# Altium footprint library 3PDT_HDR.PcbLib: 1 footprints
Each footprint in its own frame and in the unit in brackets; x right, y up, seen from the top. Pads: shape width x height; smd on the part's side, far side on the other; paste and mask are expansions set on the pad; w line width, h text height; cw(c..) or ccw(c..) is an arc to the next point about the centre after c.
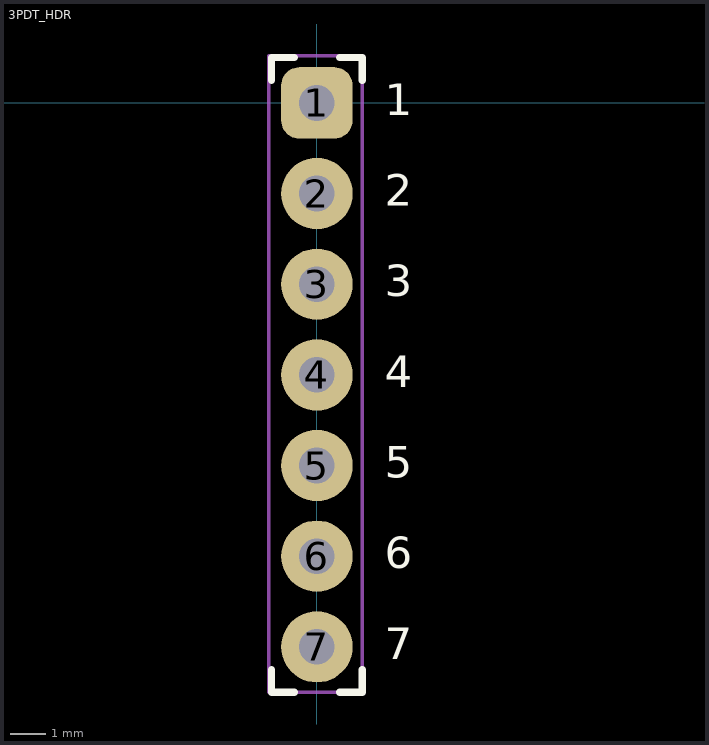
[diagram p0: the footprint, top view; thin cyan lines are the x and y axes]

## 3PDT_HDR [mm] "3PDT Switch on Mammoth Solder-Assist Board, Header Connection"
height 1
pads (7):
  rrect50% 2x2 / inner round 2 / far side rrect50% 2x2 hole 1: 1(0,0)
  round 2 hole 1: 2(0,-2.54) 3(0,-5.08) 4(0,-7.62) 5(0,-10.16) 6(0,-12.7) 7(0,-15.24)
Top Overlay:
  lines w0.2: -1.27,-15.875 -1.27,-16.51 -0.635,-16.51 ; -1.27,0.635 -1.27,1.27 -0.635,1.27 ; 0.635,-16.51 1.27,-16.51 1.27,-15.875 ; 0.635,1.27 1.27,1.27 1.27,0.635
  text "1" at 1.905,-0.635 h1.52
  text "2" at 1.905,-3.175 h1.52
  text "3" at 1.905,-5.715 h1.52
  text "4" at 1.905,-8.255 h1.52
  text "5" at 1.905,-10.795 h1.52
  text "6" at 1.905,-13.335 h1.52
  text "7" at 1.905,-15.875 h1.52
Mechanical 7:
  circle w0.2: c0,0 r0.1
  lines w0.1: -1.35,-16.51 -1.35,1.32 1.27,1.32 1.27,-16.51 -1.35,-16.51
Mechanical 15:
  text ".Designator" at -0.635,-3.81 h1.5